# Altium footprint library PcbLib1.PcbLib: 26 footprints (part 2 of 2)
Each footprint in its own frame and in the unit in brackets; x right, y up, seen from the top. Pads: shape width x height; smd on the part's side, far side on the other; paste and mask are expansions set on the pad; w line width, h text height; cw(c..) or ccw(c..) is an arc to the next point about the centre after c.
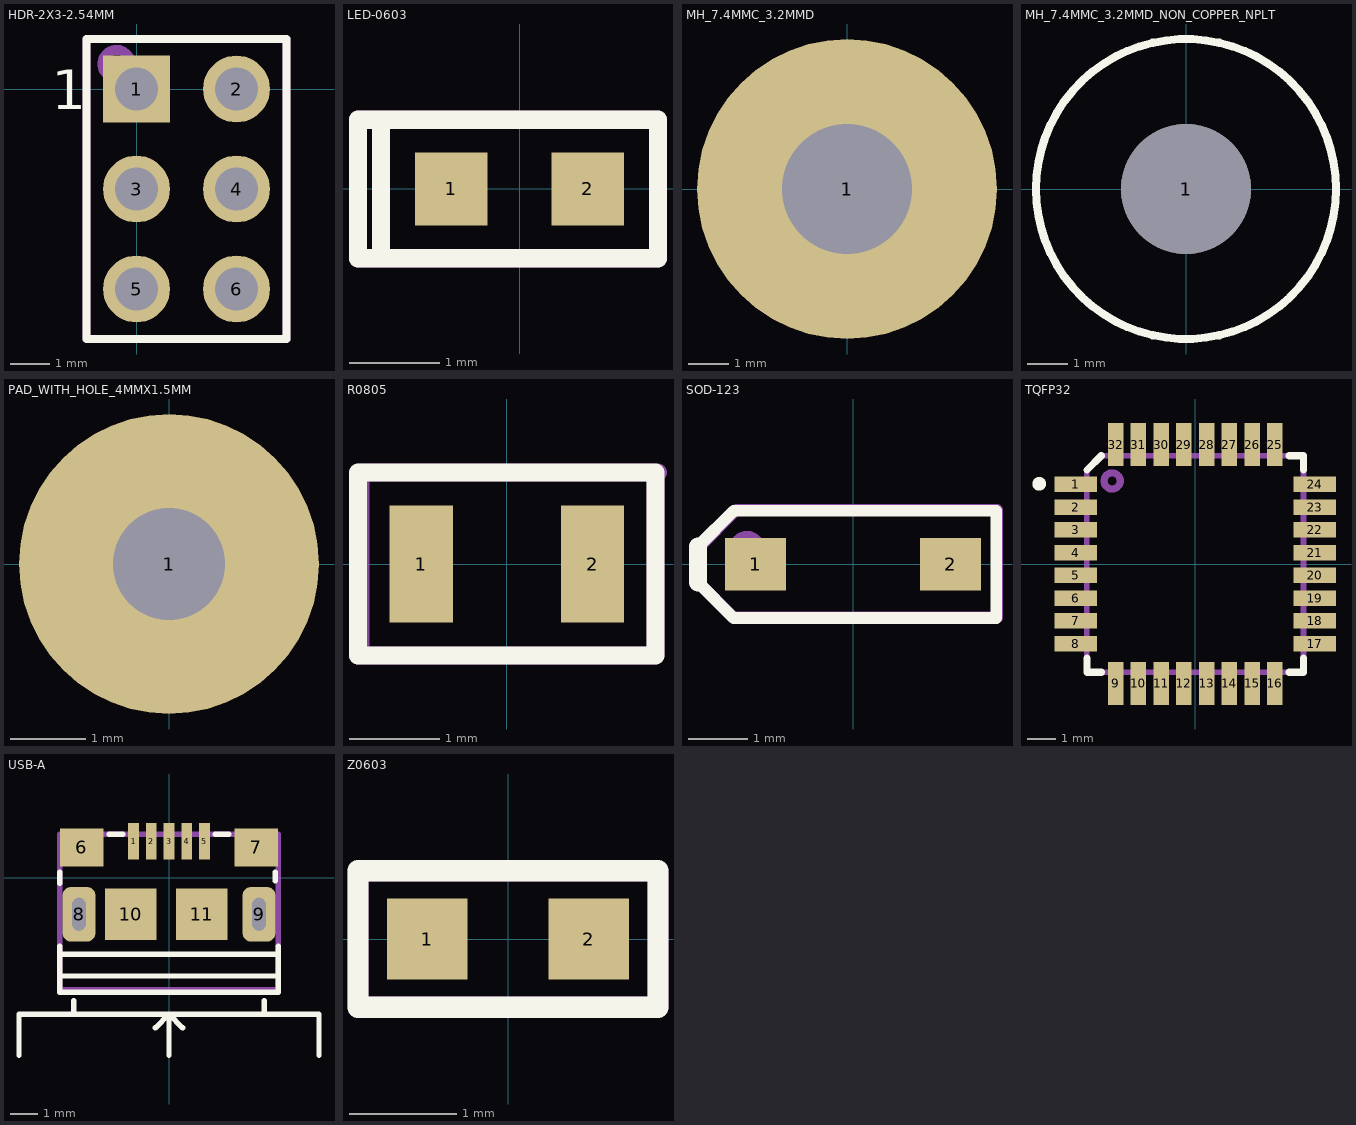
[diagram p1: the footprints below, top view; thin cyan lines are the x and y axes]

## HDR-2X3-2.54MM [mm]
pads (6):
  rect 1.7x1.7 hole 1.1: 1(0,0)
  round 1.7 hole 1.1: 2(2.54,0) 3(0,-2.54) 4(2.54,-2.54) 5(0,-5.08) 6(2.54,-5.08)
Top Overlay:
  lines w0.2: -1.27,-6.35 3.81,-6.35 3.81,1.27 -1.27,1.27 -1.27,-6.35
  text "1" at -2.159,-0.508 h1
Mechanical 29:
  circle w0.254: c-0.508,0.635 r0.359
  lines w0.2: -1.27,-6.35 3.81,-6.35 3.81,1.27 -1.27,1.27 -1.27,-6.35
  text "'.Designator'" at 1.318,-3.302 h1
3D body "HDR_2X3_2.54MM.STEP": height 9.21, standoff -3.49, extent -1.281,-6.331 3.799,1.289

## LED-0603 [mm]
pads (2):
  rect 0.8x0.8 smd: 1(-0.75,0) 2(0.75,0)
Top Overlay:
  lines w0.2: -1.524,-0.762 1.524,-0.762 1.524,0.762 -1.524,0.762 ; -1.524,-0.762 -1.524,0.762 ; -1.524,-0.762 -1.778,-0.762 -1.778,0.762 -1.524,0.762
Mechanical 29:
  lines w0.2: -1.524,-0.762 -1.524,0.762 ; -1.778,-0.762 -1.778,0.762 1.524,0.762 1.524,-0.762 -1.778,-0.762
  text "'.Designator'" at -0.635,-0.212 h0.51
3D body "LED_SMD0603.step": height 0.68, standoff 0, extent -0.825,-0.375 0.825,0.35

## MH_7.4MMC_3.2MMD [mm]
pads (1):
  round 7.4 hole 3.2: 1(0,0)

## MH_7.4MMC_3.2MMD_NON_COPPER_NPLT [mm]
pads (1):
  round 3.2 hole 3.2 unplated: 1(0,0)
Top Overlay:
  circle w0.2: c0,0 r3.7

## PAD_WITH_HOLE_4MMX1.5MM [mm]
pads (1):
  round 4 hole 1.5: 1(0,0)

## R0805 [mm]
pads (2):
  rect 0.7x1.3 smd: 1(-0.95,0) 2(0.95,0)
Top Overlay:
  lines w0.2: -1.651,-1.016 1.651,-1.016 1.651,1.016 -1.651,1.016 -1.651,-1.016
Mechanical 29:
  lines w0.2: -1.651,-1.016 1.651,-1.016 1.651,0.991 1.676,1.016 -1.626,1.016 -1.626,-0.991 -1.651,-1.016
  text "'.Designator'" at -0.968,-0.407 h1
3D body "R0805.stp": height 0.7, standoff 0.1, extent -1,-0.625 1,0.625

## SOD-123 [mm]
pads (2):
  rect 1.02x0.88 smd: 1(-1.635,0) 2(1.635,0)
Top Overlay:
  lines w0.2: -2.6,-0.3 -2,-0.9 2.4,-0.9 2.4,0.9 -2,0.9 -2.6,0.3
  lines w0.3: -2.6,-0.3 -2.6,0.3
Mechanical 29:
  circle w0.254: c-1.778,0.254 r0.18
  lines w0.2: -2.616,-0.279 -2.616,0.254 -1.956,0.914 2.413,0.914 2.413,-0.889 -2.007,-0.889 -2.616,-0.279
  text "'.Designator'" at -0.746,-0.513 h1
3D body "SOD-123.STEP": height 1.46, standoff 0.01, extent -1.825,-0.775 1.825,0.775

## TQFP32 [mm]
pads (32):
  rect 1.5x0.55 smd mask+0.06: 1(-4.2,2.8) 2(-4.2,2) 3(-4.2,1.2) 4(-4.2,0.4) 5(-4.2,-0.4) 6(-4.2,-1.2) 7(-4.2,-2) 8(-4.2,-2.8) 17(4.2,-2.8) 18(4.2,-2) 19(4.2,-1.2) 20(4.2,-0.4) 21(4.2,0.4) 22(4.2,1.2) 23(4.2,2) 24(4.2,2.8)
  rect 0.55x1.5 smd mask+0.06: 9(-2.8,-4.2) 10(-2,-4.2) 11(-1.2,-4.2) 12(-0.4,-4.2) 13(0.4,-4.2) 14(1.2,-4.2) 15(2,-4.2) 16(2.8,-4.2) 25(2.8,4.2) 26(2,4.2) 27(1.2,4.2) 28(0.4,4.2) 29(-0.4,4.2) 30(-1.2,4.2) 31(-2,4.2) 32(-2.8,4.2)
Top Overlay:
  circle w0.254: c-5.486,2.819 r0.114
  lines w0.254: -3.81,-3.302 -3.81,-3.81 -3.302,-3.81 ; -3.81,3.302 -3.302,3.81 ; 3.302,-3.81 3.81,-3.81 3.81,-3.302 ; 3.302,3.81 3.81,3.81 3.81,3.302
Mechanical 29:
  circle w0.254: c-2.921,2.921 r0.284
  lines w0.2: -3.81,-3.81 3.804,-3.81 3.807,-3.807 3.807,3.807 3.81,3.81 -3.302,3.81 -3.81,3.302 -3.81,-3.81
  text "'.Designator'" at -0.762,-0.302 h1
3D body "TQFP32.STEP": height 1.12, standoff -0.08, extent -4.5,-4.5 4.5,4.5

## USB-A [mm]
pads (11):
  rect 0.4x1.35 smd mask+0.05: 1(-1.3,1.338) 2(-0.65,1.338) 3(0,1.338) 4(0.65,1.338) 5(1.3,1.338)
  rect 1.6x1.4 smd: 6(-3.2,1.112) 7(3.2,1.112)
  rrect50% 1.2x2 hole 0.5 slot 1.2 at 90 deg: 8(-3.3,-1.338) 9(3.3,-1.338)
  rect 1.9x1.9 smd: 10(-1.4,-1.338) 11(1.2,-1.338)
Top Overlay:
  lines w0.2: -5.5,-6.5 -5.5,-5 5.3,-5 5.5,-5 5.5,-6.5 ; -4.003,-2.503 -4.003,-4.197 -4,-4.2 4,-4.2 4,-3.6 ; -4,-3.6 4,-3.6 ; -4,-2.8 4,-2.8 ; -4,-0.2 -4,0.2 ; -3.5,-5 -3.5,-4.5 ; -2.2,1.6 -1.7,1.6 ; -0.5,-5.5 0,-5 ; 0,-6.5 0,-5 ; 0.5,-5.5 0,-5 ; 1.7,1.6 2.2,1.6 ; 3.5,-5 3.5,-4.5 ; 3.9,-0.1 3.9,0.2 ; 4,-2.5 4,-3.6
Mechanical 29:
  lines w0.2: -4,-4.1 4,-4.1 4,1.6 -4,1.6 -4,-4.1
  text "'.Designator'" at -1.246,-1.546 h0.9
3D body "MICRO_USB_10118193-0001LF.stp": height 2.88, standoff -0.92, extent -3.928,-4.2 3.928,1.584

## Z0603 [mm]
pads (2):
  rect 0.75x0.75 smd: 1(-0.75,0) 2(0.75,0)
Top Overlay:
  lines w0.2: -1.397,-0.635 -1.397,0.635 1.397,0.635 1.397,-0.635 -1.397,-0.635
Mechanical 29:
  lines w0.2: -1.397,-0.635 -1.397,0.635 1.397,0.635 1.397,-0.635 -1.397,-0.635
  text "'.Designator'" at -0.515,-0.221 h0.5
3D body "Resistor_0603.step": height 0.46, standoff 0.01, extent -0.8,-0.4 0.8,0.4